# Altium schematic symbol library DMP3010LK3-13.SchLib: 1 symbol
Pins are listed as number, name and electrical type; pins without a type are passive.

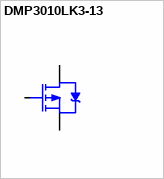
[diagram p0: symbol DMP3010LK3-13]

## DMP3010LK3-13
designator Q?
Manufacturer_id: 1; idFuse: 3; Name: 3568 Mini Fuse Holder; Drawer_id: 1
pins: 1 G, 2 S, 3 D